# EAGLE library part MC14040BDR2G (library ON_Semiconductor_By_element14_Batch_1)
12-Bit Binary Counter
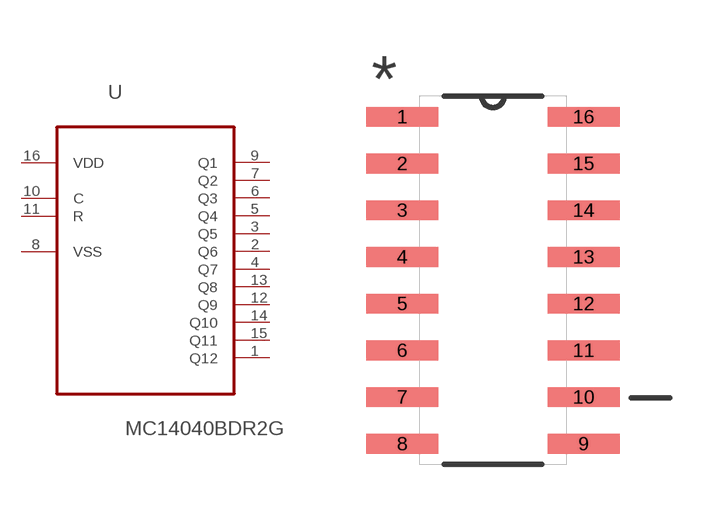
[diagram p226: symbol with the pads of SOIC127P600X175-16N; footprint SOIC127P600X175-16N]

Designator prefix U

## MC14040BDR2G (MPN: MC14040BDR2G; OC_FARNELL: 1364057; OC_NEWARK: 26K3935; PACKAGE: SOIC-16; SUPPLIER: ON SEMICONDUCTOR)  [SOIC127P600X175-16N]
1  Q12  out
2  Q6  out
3  Q5  out
4  Q7  out
5  Q4  out
6  Q3  out
7  Q2  out
8  VSS  pas
9  Q1  out
10  C  in
11  R  in
12  Q9  out
13  Q8  out
14  Q10  out
15  Q11  out
16  VDD  pwr

## Footprint SOIC127P600X175-16N (pad centres in mm)
smd 1.956 x 0.533: 1 -2.464,4.445; 2 -2.464,3.175; 3 -2.464,1.905; 4 -2.464,0.635; 5 -2.464,-0.635; 6 -2.464,-1.905; 7 -2.464,-3.175; 8 -2.464,-4.445; 9 2.464,-4.445; 10 2.464,-3.175; 11 2.464,-1.905; 12 2.464,-0.635; 13 2.464,0.635; 14 2.464,1.905; 15 2.464,3.175; 16 2.464,4.445